# Altium schematic symbol library TPD12S016PWR.SchLib: 1 symbol
Pins are listed as number, name and electrical type; pins without a type are passive.

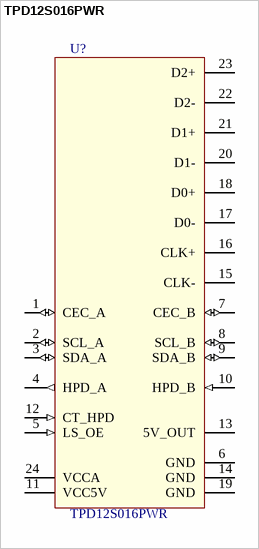
[diagram p0: symbol TPD12S016PWR]

## TPD12S016PWR
designator U?
TPD12S016 HDMI Companion Chip with I  2C Level Shifting Buffer,  12-Channel ESD Protection, and Current-Limit Load Switch; value: TPD12S016PWR
footprint SSOP-24 (SSOP, Plastic; 24 Leads; Body Width 5.3 mm; Pitch 0.65 mm)
pins: 1 CEC_A (io), 2 SCL_A (io), 3 SDA_A (io), 4 HPD_A (out), 5 LS_OE (in), 6 GND (power), 7 CEC_B (io), 8 SCL_B (io), 9 SDA_B (io), 10 HPD_B (in), 11 VCC5V (power), 12 CT_HPD  (in), 13 5V_OUT (power), 14 GND (power), 15 CLK-, 16 CLK+, 17 D0-, 18 D0+, 19 GND (power), 20 D1-, 21 D1+, 22 D2-, 23 D2+, 24 VCCA (power)